# EAGLE library part IMN10 (library imn10)
IMN10
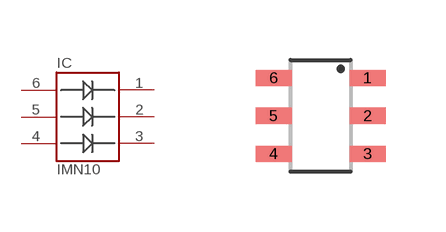
[diagram p0: symbol with the pads of SMT6; footprint SMT6]

Designator prefix IC

## IMN10A  [SMT6]
1  P$1
2  P$2
3  P$3
4  P$4
5  P$5
6  P$6

## Footprint SMT6 (pad centres in mm)
SMT6 Package EIAJ : SC-74 Source: http://www.rohm.com/products/databook/tr/pdf/umx1n.pdf
smd 0.9 x 0.4: 1 1.175,0.95; 2 1.175,0; 3 1.175,-0.95; 4 -1.175,-0.95; 5 -1.175,0; 6 -1.175,0.95